# Altium footprint library MP_PACKS.PcbLib: 6 footprints
Each footprint in its own frame and in the unit in brackets; x right, y up, seen from the top. Pads: shape width x height; smd on the part's side, far side on the other; paste and mask are expansions set on the pad; w line width, h text height; cw(c..) or ccw(c..) is an arc to the next point about the centre after c.
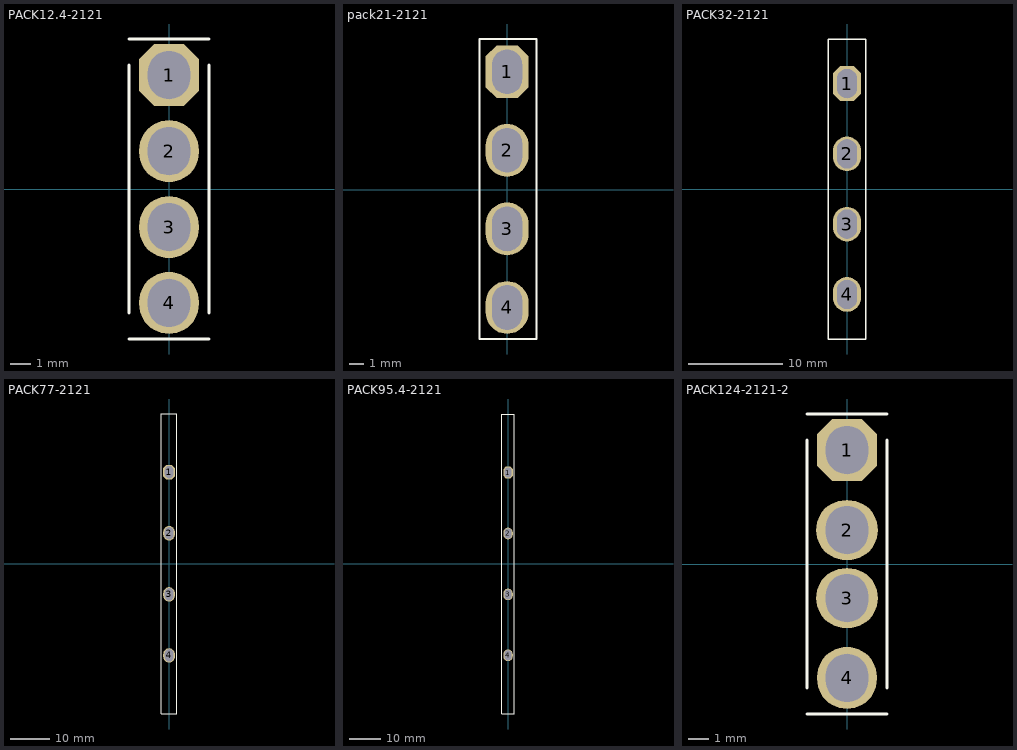
[diagram p0: the footprints below, top view; thin cyan lines are the x and y axes]

## PACK12.4-2121 [mm]
pads (4):
  oct 3x3.1 hole 2.1 slot 2.4 at 90 deg: 1(0,5.696)
  oval 3x3.1 hole 2.1 slot 2.4 at 90 deg: 2(0,1.893) 3(0,-1.904) 4(0,-5.696)
Top Overlay:
  lines w0.15: -2,-7.5 2,-7.5 ; -2,-6.204 -2,6.196 ; -2,7.5 2,7.5 ; 2,-6.196 2,6.204
3D body "11 SB.step": height 3.08, standoff -3.38, extent -1.741,-6.275 1.691,6.275

## pack21-2121 [mm]
pads (4):
  oct 3x3.7 hole 2.1 slot 3.1 at 90 deg: 1(0,8.25)
  oval 3x3.7 hole 2.1 slot 3.1 at 90 deg: 2(0,2.75) 3(0,-2.75) 4(0,-8.25)
Top Overlay:
  lines w0.15: -1.937,-10.455 2.063,-10.455 2.063,10.545 -1.937,10.545 -1.937,-10.455
Bottom Overlay:
  lines w0.15: -1.937,-10.455 2.063,-10.455 2.063,10.545 -1.937,10.545 -1.937,-10.455
3D body "21-1.step": height 3, standoff -3.3, extent -1.741,-10.5 1.691,10.5

## PACK32-2121 [mm]
pads (4):
  oct 3x3.7 hole 2.1 slot 3.1 at 90 deg: 1(0,11.25)
  oval 3x3.7 hole 2.1 slot 3.1 at 90 deg: 2(0,3.75) 3(0,-3.75) 4(0,-11.25)
Top Overlay:
  lines w0.15: -2,-16 -2,16 2,16 2,-16 -2,-16
Bottom Overlay:
  lines w0.15: -2,-16 2,-16 2,16 -2,16 -2,-16
3D body "32_edited.step": height 3.08, standoff -3.38, extent -1.705,-16.075 1.691,16.075

## PACK77-2121 [mm]
pads (4):
  oct 3x3.7 hole 2.1 slot 3.1 at 90 deg: 1(0,23.55)
  oval 3x3.7 hole 2.1 slot 3.1 at 90 deg: 2(0,7.85) 3(0,-7.862) 4(0,-23.55)
Top Overlay:
  lines w0.15: -2,-38.5 2,-38.5 2,38.5 -2,38.5 -2,-38.5
Bottom Overlay:
  lines w0.15: -2.032,-38.608 -2.032,38.392 1.968,38.392 1.968,-38.608 -2.032,-38.608
3D body "77.step": height 3.08, standoff -3.38, extent -1.705,-38.575 1.691,38.575

## PACK95.4-2121 [mm]
pads (4):
  oct 3x3.7 hole 2.1 slot 3.1 at 90 deg: 1(0,29.077)
  oval 3x3.7 hole 2.1 slot 3.1 at 90 deg: 2(0,9.692) 3(0,-9.704) 4(0,-29.077)
Top Overlay:
  lines w0.15: 2,47.712 2,-47.711 -2,-47.711 -2,47.712 2,47.712
Bottom Overlay:
  lines w0.15: -2.032,-47.752 -2.032,47.671 1.968,47.671 1.968,-47.752 -2.032,-47.752
3D body "954.step": height 3.08, standoff -3.38, extent -1.705,-47.787 1.691,47.787

## PACK124-2121-2 [mm]
pads (4):
  oct 3x3.1 hole 2.1 slot 2.4 at 90 deg: 1(0,5.696)
  oval 3.1x3 hole 2.1 slot 2.4 at 90 deg: 2(0,1.699) 3(0,-1.703)
  oval 3x3.1 hole 2.1 slot 2.4 at 90 deg: 4(0,-5.696)
Top Overlay:
  lines w0.15: -2,-7.5 2,-7.5 ; -2,-6.204 -2,6.196 ; -2,7.5 2,7.5 ; 2,-6.196 2,6.204
3D body "11 SB2.step": height 3.17, standoff -3.28, extent -1.741,-6.275 1.691,6.275